# Altium schematic symbol library Custom Components.SchLib: 47 symbols
Pins are listed as number, name and electrical type; pins without a type are passive.

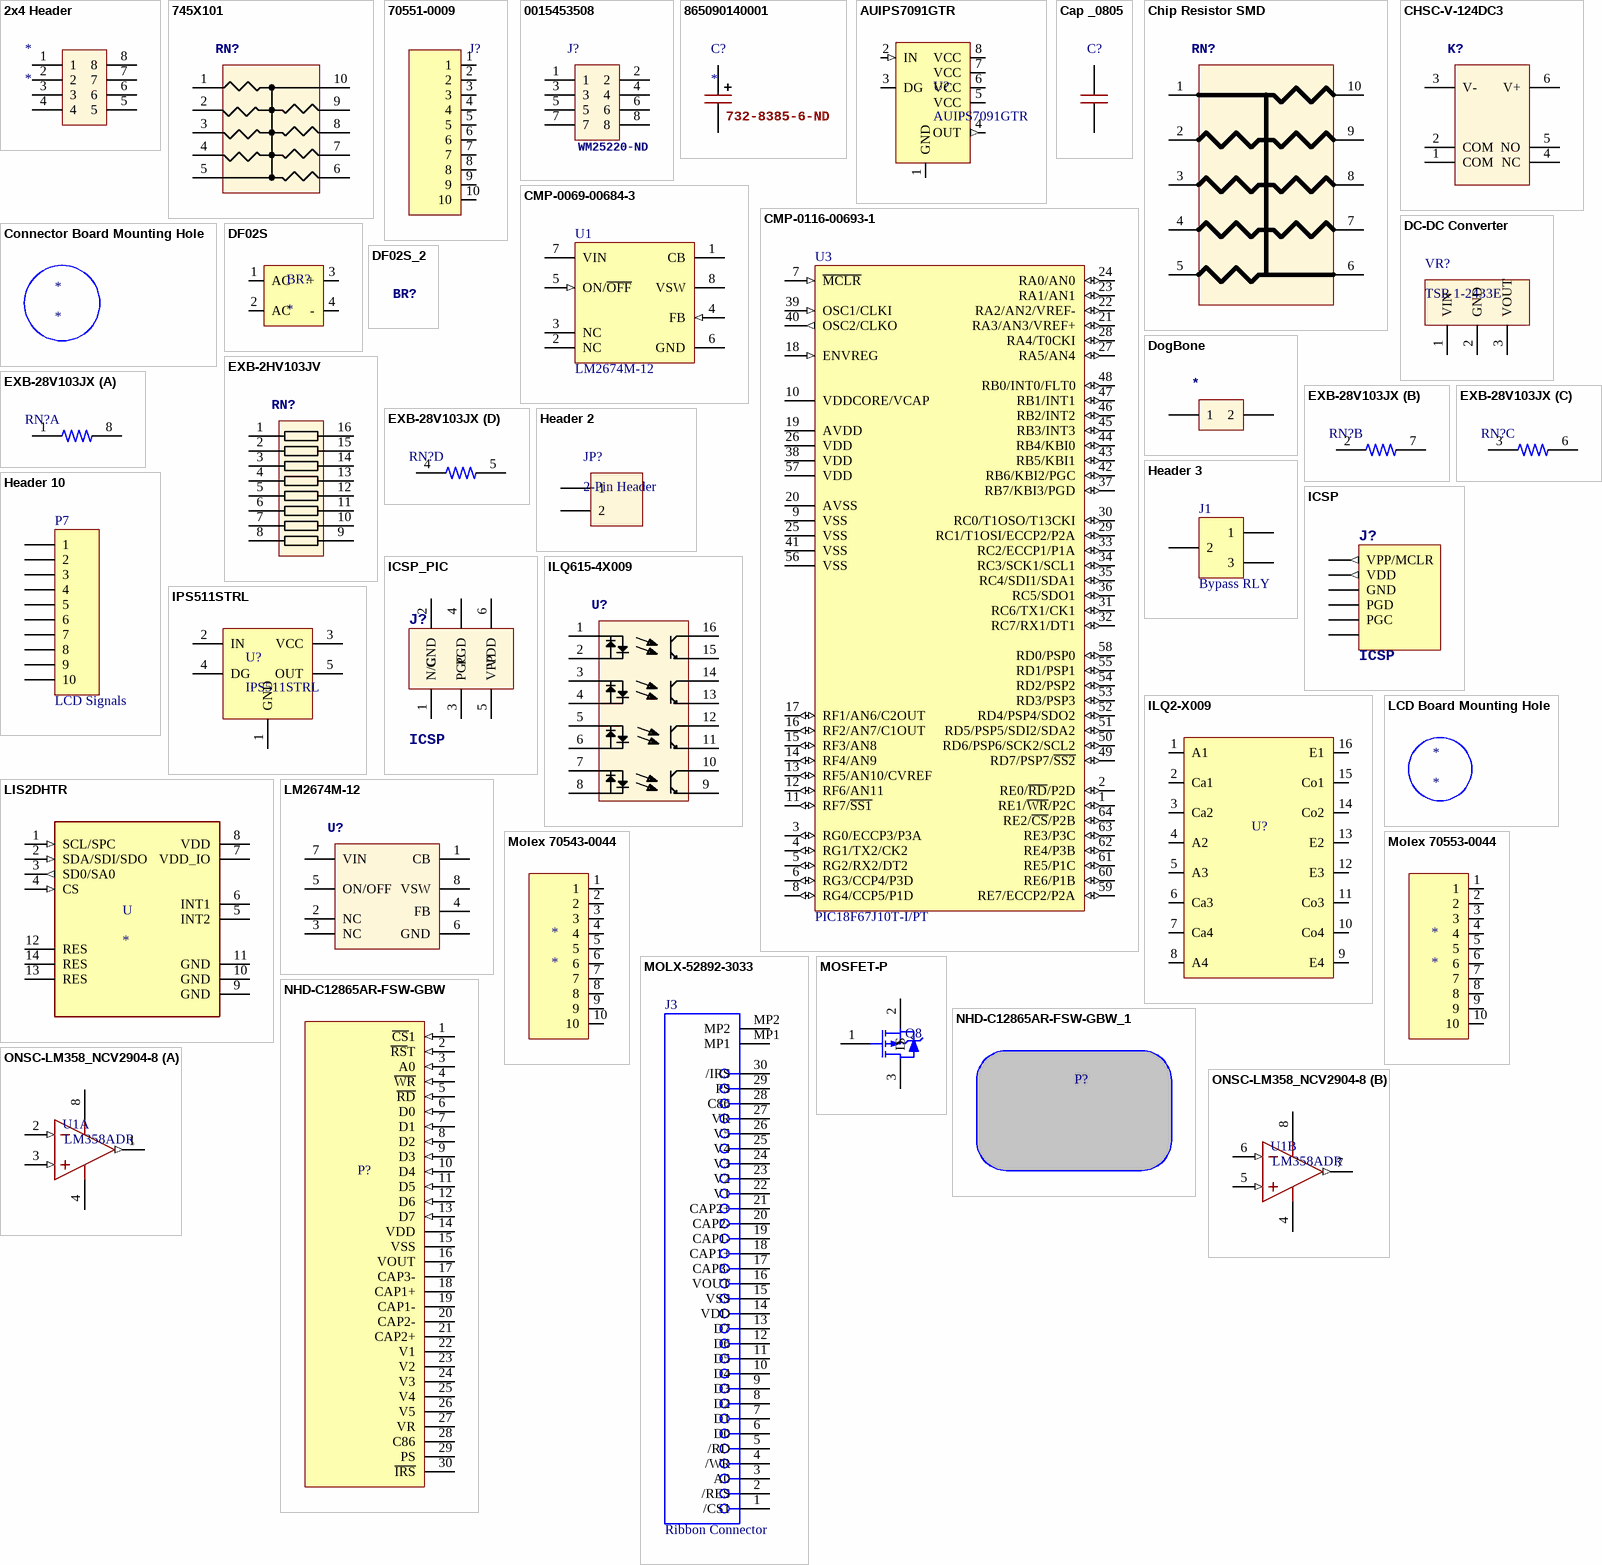
[diagram p0: symbols 2x4 Header to ONSC-LM358_NCV2904-8]

## 2x4 Header
designator *
MFR: Samtec; MFR P/N: SSQ-104-01-G-D; ComponentLink1Description: Datasheet; ComponentLink1URL: https://www.mouser.com/datasheet/2/527/ssq_th-1370157.pdf
footprint 2x4 Header
pins: 1, 2, 3, 4, 5, 6, 7, 8

## 745X101
designator RN?, comment 10K Resistor Network  (value not drawn)
MFR: CTS Electronic Components; MFR P/N: 745C101103JP; Detex P/N: 106227-1; ComponentLink1Description: Datasheet; ComponentLink1URL: https://www.mouser.com/datasheet/2/96/74x-1133528.pdf
footprint 745C101 (Resistor Network)
pins: 1, 2, 3, 4, 5, 6, 7, 8, 9, 10

## 70551-0009
designator J?, comment 538-70551-0009  (value not drawn)
Header Connector, Pcb Mount, Recept, 10 Contacts, Pin, 0.1 Pitch, Pc Tail Terminal, Locking Mech; Manufacturer: Molex; Number of Positions: 10; Pitch: 2.54mm; Supplier 1: Mouser; Manufacturer Part Number: 70551-0009; RoHS: Yes; Stock 1: 391; Pricing 1: 1=1.99000, 10=1.63000, 100=1.56000, 250=1.41000, 500=1.24000, 1000=1.05000 (USD); Mount: Through Hole; Material: Brass; Packaging: Rail/Tube; Termination: Through Hole; Orientation: Right Angle; Number of Rows: 1; Number of Contacts: 10; Number of Circuits: 10; ComponentLink1URL: https://datasheet.ciiva.com/5149/0705510009-pcb-headers-172581-5149996.pdf?src-supplier=Mouser; ComponentLink1Description: https://datasheet.ciiva.com/5149/0705510009-pcb-headers-172581-5149996.pdf?src-supplier=Mouser; ComponentLink2URL: https://datasheet.ciiva.com/30135/103850705510009-pcb-headers-30135273.pdf?src-supplier=Onlinecomponents.com; ComponentLink2Description: https://datasheet.ciiva.com/30135/103850705510009-pcb-headers-30135273.pdf?src-supplier=Onlinecomponents.com; Supplier Part Number 1: 538-70551-0009
pins: 1, 2, 3, 4, 5, 6, 7, 8, 9, 10

## 0015453508
designator J?, comment Supplier Part Number 1: WM25220-ND  (hidden comment: 2.54mm Pitch C-Grid PCB Connector, Surface Mount, High Profile)
Header Connector,PCB Mount,PLUG,8 Contacts,SKT,0.1 Pitch; Manufacturer: Molex; Manufacturer Part Number: 0015453508; Number of Contacts: 8; Gender: Female; Connector Type: Receptacle,Socket; Max Voltage Rating (AC): 250V; Row Spacing: 0.1inch; Supplier 1: Digi-Key; RoHS: Yes; Category: Headers and Wire Housings; Stock 1: 1406; Pricing 1: 1=5.91000, 10=5.67000, 100=4.72520, 500=4.01642, 1000=3.42577, 5000=3.07138 (USD); Mount: Surface Mount; Contact Plating: Gold; Housing Material: Polymer; Color: Black; Contact Material: Bronze; Housing Color: Black; Min Operating Temperature: -40°C; Max Operating Temperature: 105°C; Number of Rows: 2; Termination: Solder; Packaging: Tray; Number of Positions: 8; Orientation: Straight; Max Voltage Rating (DC): 250V; Length: 10.13mm; Pitch: 2.54mm; Depth: 5.05mm; ComponentLink1URL: https://datasheet.ciiva.com/6787/015453608-sd-6787655.pdf?src-supplier=Digi-Key; ComponentLink1Description: Datasheet; ComponentLink2URL: https://datasheet.ciiva.com/10087/0015453508-pcb-receptacles-10087835.pdf?src-supplier=Avnet; ComponentLink2Description: https://datasheet.ciiva.com/10087/0015453508-pcb-receptacles-10087835.pdf?src-supplier=Avnet
footprint MOLEX 15453508 (2.54mm Pitch C-Grid PCB Connector, Surface Mount, High Profile, Dual Row, Vertical, 8 Circuits)
pins: 1, 2, 3, 4, 5, 6, 7, 8

## 865090140001
designator C?  Supplier Part Number 1: 732-8385-6-ND
CAP 10 UF 20% 6.3 V; Manufacturer: Wurth Electronics; Manufacturer Part Number: 865090140001; Voltage Rating: 6.3V; Polarity: Polar; Ripple Current: 15mA; Life (Hours): 1000Hour; Capacitance: 10uF; Supplier 1: Digi-Key; RoHS: Yes; Category: Aluminum Electrolytic Capacitors; Stock 1: 1448; Pricing 1: 1=0.17000, 50=0.14600, 100=0.12700, 250=0.11300, 500=0.09900, 1000=0.09400 (USD); Mount: Surface Mount; Case/Package: Radial; Min Operating Temperature: -40°C; Max Operating Temperature: 85°C; Package Quantity: 2000; Packaging: Cut Tape; Ripple Current (AC): 15mA; Tolerance: 20%; Voltage Rating (DC): 6.3V; Diameter: 4mm; Height: 5.5mm; Height - Seated (Max): 0.217inch; REACH SVHC: Unknown; RoHS Compliant: Yes; ComponentLink1URL: http://www.farnell.com/datasheets/1880191.pdf?src-supplier=Farnell; ComponentLink1Description: http://www.farnell.com/datasheets/1880191.pdf?src-supplier=Farnell; ComponentLink2URL: http://www.farnell.com/datasheets/1880191.pdf?src-supplier=Element14; ComponentLink2Description: http://www.farnell.com/datasheets/1880191.pdf?src-supplier=Element14; ComponentLink3URL: http://katalog.we-online.de/pbs/datasheet/865090140001.pdf?src-supplier=Digi-Key; ComponentLink3Description: http://katalog.we-online.de/pbs/datasheet/865090140001.pdf?src-supplier=Digi-Key; ComponentLink4URL: https://katalog.we-online.de/pbs/datasheet/865090140001.pdf?src-supplier=Digi-Key; ComponentLink4Description: https://katalog.we-online.de/pbs/datasheet/865090140001.pdf?src-supplier=Digi-Key; ComponentLink5URL: http://www.farnell.com/datasheets/1880191.pdf?src-supplier=Newark; ComponentLink5Description: http://www.farnell.com/datasheets/1880191.pdf?src-supplier=Newark
footprint CAP ALSMD 5.3MM H5.4MM (Aluminum Electrolytic Capacitor, Body 5.30x5.30x5.40mm, IPC Low Density)
pins: 1, 2
text: +

## AUIPS7091GTR
designator U?
High Side MOSFET Switcher; MFR: International Rectifier/Infineon; ComponentLink1Description: Datasheet; ComponentLink1URL: http://www.infineon.com/dgdl/ips511g.pdf?fileId=5546d462533600a4015355c3ba2f161b; MFR P/N: AUIPS7091GTR; PACKAGE: 8 Lead SOIC
pins: 1 GND (power), 2 IN (in), 3 DG, 4 OUT (out), 5 VCC (power), 6 VCC (power), 7 VCC (power), 8 VCC (power)

## Cap _0805
designator C?  (value not drawn)
footprint Capacitor_0805
pins: 1, 2

## Chip Resistor SMD
designator RN?, comment Resistor Network  (value not drawn)
MFR: YAGEO; MFR P/N: YC358; ComponentLink1Description: Datasheet; ComponentLink1URL: https://datasheet.octopart.com/YC158TJR-071KL-Yageo-datasheet-137701089.pdf
pins: 1, 2, 3, 4, 5, 6, 7, 8, 9, 10

## CHSC-V-124DC3
designator K?  (value not drawn)
1 Form C Contact; Manufacturer: Churod Electronics; MFR P/N: CHSC-V-124DC3; Detex P/N: *; Package: *
footprint CHSC-V-1
pins: 1 COM, 2 COM, 3 V-, 4 NC, 5 NO, 6 V+

## CMP-0069-00684-3
designator U1, comment LM2674M-12
SIMPLE SWITCHER® Power Converter High Efficiency 500mA Step-Down Voltage Regulator, 8-pin Narrow SOIC; ComponentLink1URL: http://www.ti.com/general/docs/lit/getliterature.tsp?genericPartNumber=LM2674&fileType=pdf; ComponentLink1Description: Datasheet URL
footprint D0008A_L
pins: 1 CB, 2 NC, 3 NC, 4 FB (in), 5 ON/~{OFF} (in), 6 GND (power), 7 VIN (power), 8 VSW (power)

## CMP-0116-00693-1
designator U3, comment PIC18F67J10T-I/PT
High Performance, 1-Mbit Flash Microcontroller with nanoWatt Technology, 128K Flash, 64-Pin TQFP, Industrial Temperature Range, Tape and Reel; MFR: Microchip; ComponentLink1Description: Datasheet; MFR P/N: PIC18F67J10; PACKAGE: 64 pin Microcontroller
footprint PIC18F67J10T-I/PT
pins: 1 RE1/~{WR}/P2C (io), 2 RE0/~{RD}/P2D (io), 3 RG0/ECCP3/P3A (io), 4 RG1/TX2/CK2 (io), 5 RG2/RX2/DT2 (io), 6 RG3/CCP4/P3D (io), 7 ~{MCLR} (in), 8 RG4/CCP5/P1D (io), 9 VSS (power), 10 VDDCORE/VCAP (power), 11 RF7/~{SS1} (io), 12 RF6/AN11 (io), 13 RF5/AN10/CVREF (io), 14 RF4/AN9 (io), 15 RF3/AN8 (io), 16 RF2/AN7/C1OUT (io), 17 RF1/AN6/C2OUT (io), 18 ENVREG (in), 19 AVDD (power), 20 AVSS (power), 21 RA3/AN3/VREF+ (io), 22 RA2/AN2/VREF- (io), 23 RA1/AN1 (io), 24 RA0/AN0 (io), 25 VSS (power), 26 VDD (power), 27 RA5/AN4 (io), 28 RA4/T0CKI (io), 29 RC1/T1OSI/ECCP2/P2A (io), 30 RC0/T1OSO/T13CKI (io), 31 RC6/TX1/CK1 (io), 32 RC7/RX1/DT1 (io), 33 RC2/ECCP1/P1A (io), 34 RC3/SCK1/SCL1 (io), 35 RC4/SDI1/SDA1 (io), 36 RC5/SDO1 (io), 37 RB7/KBI3/PGD (io), 38 VDD (power), 39 OSC1/CLKI (in), 40 OSC2/CLKO (out), 41 VSS (power), 42 RB6/KBI2/PGC (io), 43 RB5/KBI1 (io), 44 RB4/KBI0 (io), 45 RB3/INT3 (io), 46 RB2/INT2 (io), 47 RB1/INT1 (io), 48 RB0/INT0/FLT0 (io), 49 RD7/PSP7/~{SS2} (io), 50 RD6/PSP6/SCK2/SCL2 (io), 51 RD5/PSP5/SDI2/SDA2 (io), 52 RD4/PSP4/SDO2 (io), 53 RD3/PSP3 (io), 54 RD2/PSP2 (io), 55 RD1/PSP1 (io), 56 VSS (power), 57 VDD (power), 58 RD0/PSP0 (io), 59 RE7/ECCP2/P2A (io), 60 RE6/P1B (io), 61 RE5/P1C (io), 62 RE4/P3B (io), 63 RE3/P3C (io), 64 RE2/~{CS}/P2B (io)

## Connector Board Mounting Hole
designator *  (no BOM)
footprint Mount Hole Connector Board

## DC-DC Converter
designator VR?, comment TSR 1-2433E
ComponentLink1Description: Datasheet; ComponentLink1URL: https://www.mouser.com/datasheet/2/687/tsr1e_datasheet-1842504.pdf
footprint DC-DC Converter
pins: 1 VIN (power), 2 GND (power), 3 VOUT (power)

## DF02S
designator BR?
Single Phase Bridge Rectifier
footprint SOP520P1005X363-4N
pins: 1 AC (power), 2 AC (power), 3 + (power), 4 - (power)

## DF02S_2
designator BR?, comment DF02S  (value not drawn)

## DogBone
designator *  (value not drawn)
footprint DogBone
pins: 1, 2

## EXB-2HV103JV
designator RN?  (value not drawn)
Resistor Networks & Arrays 10K OHM 5%
footprint EXB2HV (Chip Resistors Array)
pins: 1, 2, 3, 4, 5, 6, 7, 8, 9, 10, 11, 12, 13, 14, 15, 16

## EXB-28V103JX
designator RN?  (value not drawn)
10k Ohm ±5% 62.5mW Power Per Element Isolated Resistor Network/Array ±200ppm/°C 0804, Convex, Long Side Terminals; MF: Panasonic Electronic; Mouser-Purchase-URL: https://snapeda.com/shop?store=Mouser&id=291202; Arrow_Europe-Purchase-URL: https://snapeda.com/shop?store=Arrow+Europe&id=291202; Price: None; Availability: Good; Value: *; MP: EXB-28V103JX; SnapEDA_Link: https://www.snapeda.com/parts/EXB-28V103JX/Panasonic%20Electronic%20Components/view-part/291202/?ref=snap; Package: 0804 Panasonic
footprint RESCAXS50P200X100X45-8N
part A pins: 1, 8
part B pins: 2, 7
part C pins: 3, 6
part D pins: 4, 5

## Header 2
designator JP?, comment 2-Pin Header
2.54mm Pitch 2 Way 1 Row Straight Pin Header, Through Hole; MFR: TE Connectivity; MFR P/N: 5-146285-2; Detex P/N: *
footprint 2 Pin Header
pins: 1, 2

## Header 3
designator J1, comment Bypass RLY
Header, 3-Pin
footprint 3 Pin Header for Relay
pins: 1, 2, 3

## Header 10
designator P7, comment LCD Signals
Header, 10-Pin
signal-integrity model Connector
footprint 10 pin Header (10 pin header, vertical)
pins: 1, 2, 3, 4, 5, 6, 7, 8, 9, 10

## ICSP
designator J?  (no BOM)
ICSP Header, 6-Pin Inline; Detex P/N: *; ComponentLink1Description: Datasheet
footprint HDR1X6 (Connector; Header; 6 Position)
signal-integrity model Connector
footprint ICSP SMT (In-Circuit Programming Header, Single Layer); pin to pad 1>6 2>1 3>5 5>3 6>2
pins: 1 VPP/MCLR (out), 2 VDD (out), 3 GND, 4 PGC, 5 PGD, 6

## ICSP_PIC
designator J?, comment ICSP  (no BOM)
ICSP Header, 6-Pin, 2 Row; ComponentLink1Description: Datasheet
footprint HDR1X6 (Connector; Header; 6 Position)
signal-integrity model Connector
footprint ICSP SMT (In-Circuit Programming Header, Single Layer); pin to pad 1>6 2>1 3>5 5>3
footprint ICSP SMT (In-Circuit Programming Header, Single Layer)
pins: 1 N/C, 2 GND, 3 PGC, 4 PGD, 5 VPP, 6 VDD

## ILQ2-X009
designator U?  (value not drawn)
Quad Channel Optocoupler
pins: 1 A1 (power), 2 Ca1 (power), 3 Ca2 (power), 4 A2 (power), 5 A3 (power), 6 Ca3 (power), 7 Ca4 (power), 8 A4 (power), 9 E4 (power), 10 Co4 (power), 11 Co3 (power), 12 E3 (power), 13 E2 (power), 14 Co2 (power), 15 Co1 (power), 16 E1 (power)

## ILQ615-4X009
designator U?  (value not drawn)
Transistor Output Optocouplers Phototransistor Out Quad CTR > 160-320%; Manufacturer: Vishay Semiconductors; ComponentLink1Description: Manufacturer URL; ComponentLink1URL: Vishay Semiconductors; ComponentLink2Description: Datasheet; Manufacturer Part Number: ILQ615-4X009; MFR: Vishay Semiconductors; MFR P/N: ILQ615-4X009; PACKAGE: SMD-16
footprint SMD-16
pins: 1, 2, 3, 4, 5, 6, 7, 8, 9, 10, 11, 12, 13, 14, 15, 16

## IPS511STRL
designator U?
High Side MOSFET Switcher
pins: 1 GND (power), 2 IN (power), 3 VCC (power), 4 DG (power), 5 OUT (power)

## LCD Board Mounting Hole
designator *  (no BOM)
footprint Mount Hole LCD Board

## LIS2DHTR
designator U
Accelerometer X, Y, Z Axis Â±2g, 4g, 8g, 16g 0.5Hz ~ 672Hz 14-LGA _2x2_; MF: STMicroelectronics; MP: LIS2DHTR; Package: LGA-14 STMicroelectronics; Value: *; SnapEDA_Link: https://www.snapeda.com/parts/LIS2DHTR/STMicroelectronics/view-part/45205/?ref=snap; ComponentLink1Description: Datasheet; ComponentLink1URL: https://www.st.com/content/ccc/resource/technical/document/datasheet/c1/e1/62/31/d2/b1/4d/bb/DM00042751.pdf/files/DM00042751.pdf/jcr:content/translations/en.DM00042751.pdf
footprint PQFN35P200X200X100-14N
footprint LIS2DHTR
pins: 1 SCL/SPC (in), 2 SDA/SDI/SDO (in), 3 SD0/SA0 (out), 4 CS (in), 5 INT2 (power), 6 INT1 (power), 7 VDD_IO (power), 8 VDD (power), 9 GND (power), 10 GND (power), 11 GND, 12 RES, 13 RES, 14 RES

## LM2674M-12
designator U?  (value not drawn)
IC REG BUCK 12V 0.5A 8-SOIC
footprint SOIC8-1.27-5X4MM
pins: 1 CB, 2 NC, 3 NC, 4 FB, 5 ON/OFF, 6 GND, 7 VIN, 8 VSW

## Molex 70543-0044
designator *
Molex SL Vertical 1 x 10 header
pins: 1, 2, 3, 4, 5, 6, 7, 8, 9, 10

## Molex 70553-0044
designator *
Molex SL Horizontal 1 x 10 header
pins: 1, 2, 3, 4, 5, 6, 7, 8, 9, 10

## MOLX-52892-3033
designator J3, comment Ribbon Connector
0.5 mm Pitch Easy-On(TM) Type FPC Connector, 2.0 mm Mated Height, Right Angle, ZIF, SMT, Bottom Contact, 30 Circuits, -40 to 85 degC, ELV and RoHS Compliant, Tape and Reel; Manufacturer: Molex; PartNumber: 52892-3033; Stackable: No; Pitch - Mating Interface: 0.50mm; Entry Angle: 90degrees Angle; Circuits (Loaded): 30; Material - Plating Termination: Silver, Tin-Bismuth; Durability (mating cycles max): 20; Voltage (Max): 50V; PCB Retention: Yes; Material - Metal: Phosphor Bronze; Current (Max per Contact): 0.5A; Mated Height: 2.00mm; RoHS: TRUE; ComponentLink3URL: http://www.molex.com/pdm_docs/sd/528923033_sd.pdf; ComponentLink1Description: Manufacturer URL; PCB Locator: No; ComponentLink3Description: Package Specification; Polarized to PCB: No; Packing: Tape and Reel; ComponentLink2URL: http://www.molex.com/webdocs/datasheets/pdf/en-us/0528923033_FFC_FPC_CONNECTORS.pdf; PackageReference: 52892-3033; Pitch - Termination Interface: 0.50mm; Mounting Technology: Surface Mount; Number of Rows: 1; PackageVersion: Rev. A, 05/2013; ComponentLink2Description: Datasheet; Orientation: Right Angle; Material - Plating Mating: Silver, Tin-Bismuth; Contact Position: Bottom; ComponentLink1URL: http://www.molex.com/molex/index.jsp
footprint 52892-3033 (0.5 mm Pitch Easy-On(TM) Type FPC Connector, 2.0 mm Mated Height, Right Angle, ZIF, SMT, Bottom Contact, 30 Circuits, -40 to 85 degC, ELV and RoHS Compliant, Tape and Reel)
pins: 1 /CS1, 2 /RES, 3 A0, 4 /WR, 5 /RD, 6 D0, 7 D1, 8 D2, 9 D3, 10 D4, 11 D5, 12 D6, 13 D7, 14 VDD, 15 VSS, 16 VOUT, 17 CAP3-, 18 CAP1+, 19 CAP1-, 20 CAP2-, 21 CAP2+, 22 V1, 23 V2, 24 V3, 25 V4, 26 V5, 27 VR, 28 C86, 29 PS, 30 /IRS, MP1, MP2

## MOSFET-P
designator Q8  (value not drawn)
P-Channel MOSFET; MFR P/N: NDS0605; ComponentLink1Description: Datasheet
simulation model PMOS (MOSFET-P)
footprint SOT-23_N (SOT23, 3-Leads, Body 2.9x1.3mm, Pitch 0.95mm, Lead Span 2.5mm, IPC Medium Density)
pins: 1 G, 2 S, 3 D

## NHD-C12865AR-FSW-GBW
designator P?  (value not drawn)
COG LCD Module
pins: 1 ~{CS}1 (in), 2 ~{RS}T (in), 3 A0 (in), 4 ~{WR} (in), 5 ~{RD} (in), 6 D0 (in), 7 D1 (in), 8 D2 (in), 9 D3 (in), 10 D4 (in), 11 D5 (in), 12 D6 (in), 13 D7 (in), 14 VDD (power), 15 VSS (power), 16 VOUT (power), 17 CAP3- (power), 18 CAP1+ (power), 19 CAP1- (power), 20 CAP2- (power), 21 CAP2+ (power), 22 V1 (power), 23 V2 (power), 24 V3 (power), 25 V4 (power), 26 V5 (power), 27 VR (power), 28 C86 (power), 29 PS (power), 30 ~{IRS} (power)

## NHD-C12865AR-FSW-GBW_1
designator P?, comment NHD-C12865AR-FSW-GBW  (value not drawn)
COG LCD Module; MFR: Newhaven Display; MFR P/N: NHD-C12865AR-FSW; Detex P/N: *; ComponentLink1Description: Datasheet; ComponentLink1URL: *

## ONSC-LM358_NCV2904-8
designator U1, comment LM358ADR
OP-AMPS, LM358ADR SMD; Manufacturer: On Semiconductor; PartNumber: LM358ADR2G; Packing: Tape and Reel; Output Current: 40mA; Number of Elements: 2; Detex P/N: 104270-1; DatasheetVersion: Rev. 27; ComponentLink1URL: http://www.onsemi.com/; ComponentLink3URL: http://www.onsemi.com/pub_link/Collateral/751-07.PDF; ComponentLink2URL: http://www.onsemi.cn/pub_link/Collateral/LM358-D.PDF; Mounting Technology: Surface Mount; ComponentLink3Description: Package Specification; ComponentLink2Description: Datasheet; RoHS: TRUE; ComponentLink1Description: Manufacturer URL; Supplier 1: Digi-Key; Supplier Part Number 1: LM358ADR2GOSCT-ND; Manufacturer Part Number: LM358ADR2G; Category: Amplifiers - Op Amps, Buffer, Instrumentation; Stock 1: 1674; Pricing 1: 1=0.40000, 10=0.30000, 25=0.27080, 100=0.14760, 250=0.14268, 500=0.12792, 1000=0.09840 (USD); Case/Package: SOIC8; Number of Pins: 8; Min Operating Temperature: 0°C; Max Operating Temperature: 70°C; Packaging: Tape and Reel; Package Quantity: 1; Length: 5mm; Height: 1.5mm; Width: 4mm; Radiation Hardening: No; Lead Free: Lead Free; ComponentLink4URL: https://datasheet.ciiva.com/1811/lm358-d-1811139.pdf?src-supplier=Digi-Key; ComponentLink4Description: https://datasheet.ciiva.com/1811/lm358-d-1811139.pdf?src-supplier=Digi-Key; ComponentLink5URL: https://datasheet.ciiva.com/11710/lm358-d-11710743.pdf?src-supplier=Avnet; ComponentLink5Description: https://datasheet.ciiva.com/11710/lm358-d-11710743.pdf?src-supplier=Avnet; ComponentLink6URL: https://datasheet.ciiva.com/1811/lm358-d-1811138.pdf?src-supplier=Digi-Key; ComponentLink6Description: https://datasheet.ciiva.com/1811/lm358-d-1811138.pdf?src-supplier=Digi-Key; ComponentLink7URL: https://datasheet.ciiva.com/1811/lm358-d-1811140.pdf?src-supplier=Digi-Key; ComponentLink7Description: https://datasheet.ciiva.com/1811/lm358-d-1811140.pdf?src-supplier=Digi-Key; ComponentLink8URL: https://datasheet.ciiva.com/16287/lm358-d-16287109.pdf?src-supplier=Future+Electronics; ComponentLink8Description: https://datasheet.ciiva.com/16287/lm358-d-16287109.pdf?src-supplier=Future+Electronics; ComponentLink9URL: https://datasheet.ciiva.com/4757/lm358-d-106278-4757932.pdf?src-supplier=Mouser; ComponentLink9Description: https://datasheet.ciiva.com/4757/lm358-d-106278-4757932.pdf?src-supplier=Mouser
footprint ONSC-SOIC-8-751-07_V (SOIC, 8-Leads, Body 4.9x3.9mm, Pitch 1.27mm)
pins on every part: 4 VEE/GND (power), 8 VCC (power)
part A pins: 1 OUTA (out), 2 INA- (in), 3 INA+ (in)
part B pins: 5 INB+ (in), 6 INB- (in), 7 OUTB (out)

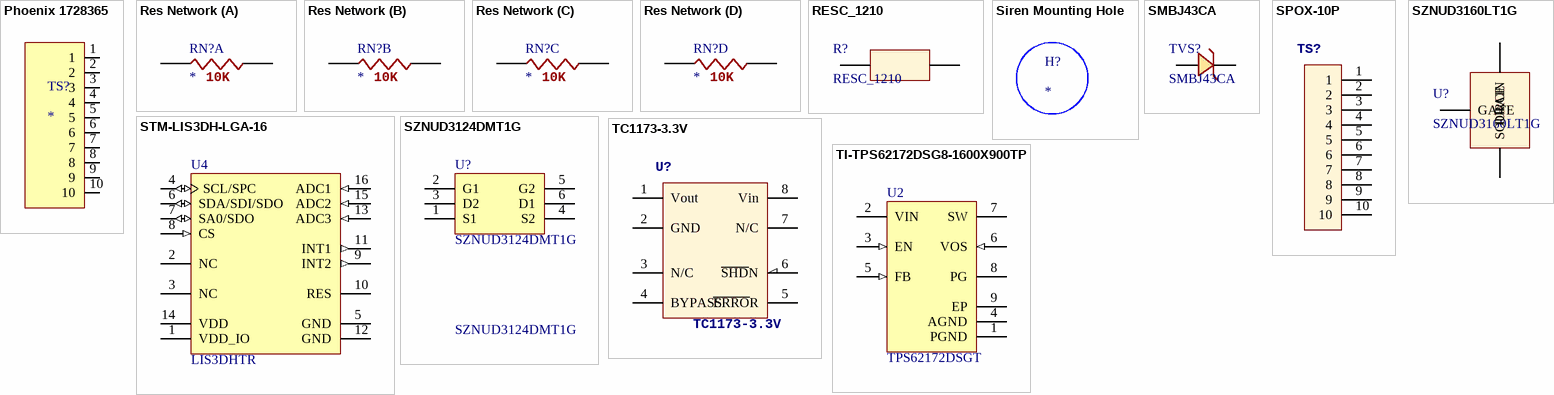
[diagram p1: symbols Phoenix 1728365 to TI-TPS62172DSG8-1600X900TP]

## Phoenix 1728365
designator TS?
Phoenix PCB Connector, 1 x 10 pins
pins: 1, 2, 3, 4, 5, 6, 7, 8, 9, 10

## Res Network
designator RN?  value 10K  (graphical)
footprint RESCAXS50P200X100X45-8N
part A pins: 1, 2
part B pins: 3, 4
part C pins: 3, 4
part D pins: 3, 4

## RESC_1210
designator R?
footprint RESC_1210
pins: 1, 2

## Siren Mounting Hole
designator H?  (no BOM)
footprint Siren Mount Hole

## SMBJ43CA
designator TVS?
69.4V Clamp 8.7A Ipp Tvs Diode Surface Mount DO-214AA (SMBJ); MFR: Littelfuse Inc; Detex P/N: 103516-43; MFR P/N: SMBJ43CA; Package: DO214AA; Type: DEV; ComponentLink1Description: Datasheet; ComponentLink1URL: https://www.littelfuse.com/~/media/electronics/datasheets/tvs_diodes/littelfuse_tvs_diode_smbj_datasheet.pdf.pdf
footprint SMBJSeries_LTF
footprint SMBJSeries_LTF-L
footprint SMBJSeries_LTF-M
pins: 1, 2

## SPOX-10P
designator TS?, comment 22057105  (value not drawn)
Manufacturer: Molex; MFR P/N: 22057105; Detex P/N: *
footprint SPOX-10P (22057105)
pins: 1, 2, 3, 4, 5, 6, 7, 8, 9, 10

## STM-LIS3DH-LGA-16
designator U4, comment LIS3DHTR
MEMS Digital Output Motion Sensor Ultra Low-Power High Performance 3-Axes "nano" Accelerometer, 1.71 to 3.6 V, -40 to 85 degC, 16-pin (LGA-16), Pb-Free, Tape and Reel; Manufacturer: STMicroelectronics; Interface: I2C, SPI; Bandwidth: 5 kHz; Current Consumption in Power-Down mode: 0.5 uA; ComponentLink2Description: Datasheet; Packing: Tape and Reel; ComponentLink3URL: http://www.st.com/st-web-ui/static/active/en/resource/technical/document/datasheet/CD00274221.pdf; Wide Supply Voltage: 1.71 to 3.6 V; Mounting Technology: Surface Mount; PackageReference: LGA-16; ComponentLink3Description: Package Specification; PartNumber: LIS3DHTR; ComponentLink1Description: Manufacturer URL; ComponentLink1URL: http://www.st.com/; ComponentLink2URL: http://www.st.com/st-web-ui/static/active/en/resource/technical/document/datasheet/CD00274221.pdf; RoHS: TRUE
footprint LIS3DHTR
pins: 1 VDD_IO (power) "Power supply for I/O pins", 2 NC "Not connected", 3 NC "Not connected", 4 SCL/SPC (io) "I2C serial clock (SCL),SPI serial port clock (SPC)", 5 GND (power) "0V supply", 6 SDA/SDI/SDO (io) "I2C serial data (SDA),SPI serial data input (SDI),3-wire interface serial data output (SDO)", 7 SA0/SDO (io) "SPI serial data output (SDO),I2C less significant bit of the device address (SA0)", 8 CS (in) "SPI enable I2C/SPI mode selection (1: I2C mode; 0: SPI enabled)", 9 INT2 (out) "Inertial interrupt 2", 10 RES (power) "Connect to GND", 11 INT1 (out) "Inertial interrupt 1", 12 GND (power) "0 V supply", 13 ADC3 (in) "Analog to digital converter input 3", 14 VDD (power) "Power supply", 15 ADC2 (in) "Analog to digital converter input 2", 16 ADC1 (in) "Analog to digital converter input 1"

## SZNUD3124DMT1G
designator U?
Gate Drivers 24 V DUAL INDUCTIVE LOAD; MFR: ON Semiconductor; ComponentLink1URL: https://www.mouser.com/datasheet/2/308/NUD3124-D-1814421.pdf; ComponentLink1Description: Datasheet; PACKAGE: SC-74-6; Detex P/N: *; MFR P/N: SZNUD3124DMT1G
footprint DIODES SOT-363 (SOT363, 6-Leads, Body 2.00x2.10mm, Pitch 0.65mm, IPC Medium Density)
footprint TI SOT-23-6 DDC (SOT23, 6-Leads, Body 2.90x2.80mm, Pitch 0.95mm, IPC Medium Density)
pins: 1 S1 "SOURCE 1", 2 G1 (oe) "GATE 1", 3 D2 "DRAIN 2", 4 S2 "SOURCE 2", 5 G2 (hiz) "GATE 2", 6 D1 "DRAIN 1"

## SZNUD3160LT1G
designator U?
ON SEMICONDUCTOR - SZNUD3160LT1G - Relay Driver, Inductive Load, 61V to 70V Drain to Source, 150mA Out, SOT-23-3; Number of Outputs: 1; Max Supply Voltage: 60V; Rise Time: 2290ns; Max Power Dissipation: 380mW; Output Configuration: Low Side; Interface: On/Off; Fall Time: 618ns; Continuous Drain Current (ID): 272mA; Gate to Source Voltage (Vgs): 12V; Supplier 1: Digi-Key; Manufacturer: ON Semiconductor; Manufacturer Part Number: SZNUD3160LT1G; RoHS: Yes; Category: Hot Swap Controllers; Stock 1: 249; Pricing 1: 1=0.58000, 10=0.49500, 25=0.46200, 100=0.34320, 250=0.29040, 500=0.27720, 1000=0.20460 (USD); Mount: Surface Mount; Case/Package: SOT-23-3; Number of Pins: 3; Min Operating Temperature: -40°C; Max Operating Temperature: 125°C; Max Output Current: 150mA; Package Quantity: 3000; Packaging: Tape and Reel; Power Dissipation: 380mW; Number of Drivers: 1; Number of Elements: 1; Length: 3.04mm; Width: 1.4mm; Height: 1.01mm; Radiation Hardening: No; Lead Free: Lead Free; Halogen Free: Halogen Free; ComponentLink1URL: https://datasheet.ciiva.com/11165/nud3160-d-11165392.pdf?src-supplier=Avnet; ComponentLink1Description: https://datasheet.ciiva.com/11165/nud3160-d-11165392.pdf?src-supplier=Avnet; ComponentLink2URL: https://datasheet.ciiva.com/48991/70300691-48991670.pdf?src-supplier=Allied+Electronics; ComponentLink2Description: https://datasheet.ciiva.com/48991/70300691-48991670.pdf?src-supplier=Allied+Electronics; Supplier Part Number 1: SZNUD3160LT1GOSCT-ND
footprint SOT-23_N (SOT23, 3-Leads, Body 2.9x1.3mm, Pitch 0.95mm, Lead Span 2.5mm, IPC Medium Density)
pins: 1 GATE, 2 SOURCE, 3 DRAIN

## TC1173-3.3V
designator U?
300mA CMOS LDO with Shutdown ERROR Output and Bypass; MFR: Microchip; Detex P/N: *; Package: SOIC-8; ComponentLink1Description: Datasheet; ComponentLink1URL: https://www.mouser.com/datasheet/2/268/21362b-68577.pdf; MFR P/N: TC1173-3.3V
footprint SO8_M (SOIC, 8-Leads, Body 4.9x3.9mm, Pitch 1.27mm, IPC Low Density)
pins: 1 Vout, 2 GND, 3 N/C, 4 BYPASS, 5 ~{ERRO}R (oc), 6 ~{SHD}N, 7 N/C, 8 Vin

## TI-TPS62172DSG8-1600X900TP
designator U2, comment TPS62172DSGT
Buck Step Down Regulator with 3 to 17 V Input and 3.3 V Output, -40 to 85 degC, 8-Pin WSON (DSG), Green (RoHS & no Sb/Br); MFR: Instruments; ComponentLink1URL: http://www.ti.com/general/docs/lit/getliterature.tsp?genericPartNumber=TPS62172&fileType=pdf; ComponentLink1Description: Datasheet; MFR P/N: TPS62172; PACKAGE: 3.3V Buck Converter
footprint DSG0008A_V
pins: 1 PGND (power) "Power ground", 2 VIN (power) "Supply voltage", 3 EN (in) "Enable input (High = enabled, Low = disabled)", 4 AGND (power) "Analog Ground", 5 FB (in) "Voltage feedback of adjustable version. Connect resistive voltage divider to this pin. It is recommended to connect FB to AGND on fixed output voltage versions for improved thermal performance.", 6 VOS (in) "Output voltage sense pin and connection for the control loop circuitry.", 7 SW (power) "Switch node, which is connected to the internal MOSFET switches. Connect inductor between SW and output capacitor.", 8 PG (hiz) "Output power good (High = VOUT ready, Low = VOUT below nominal regulation) ; open drain (requires pull-up resistor; goes high impedance, when device is switched off)", 9 EP (power) "Must be connected to AGND. Must be soldered to achieve appropriate power dissipation and mechanical reliability."